# EAGLE library part HM-TRP (library HM-TRP)
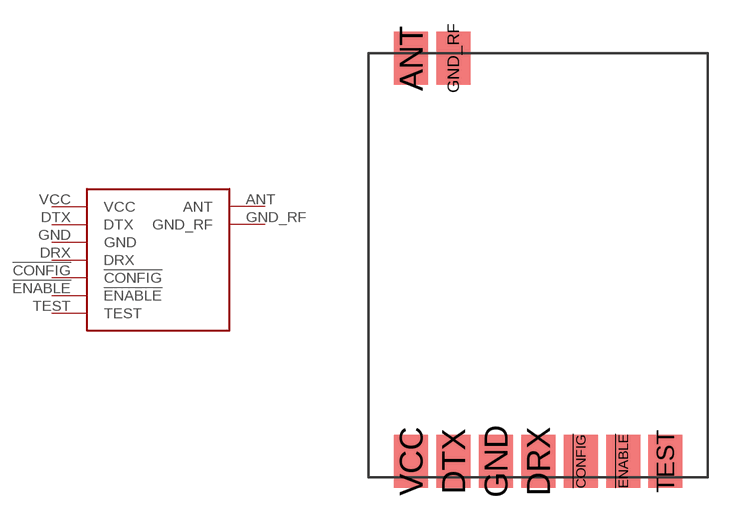
[diagram p0: symbol with the pads of HM-TRP; footprint HM-TRP]

Designator prefix -

## HM-TRP  [HM-TRP]
!CONFIG  !CONFIG
!ENABLE  !ENABLE
ANT  ANT
DRX  DRX
DTX  DTX
GND  GND
GND_RF  GND_RF
TEST  TEST
VCC  VCC

## Footprint HM-TRP (pad centres in mm)
smd 1.6 x 2.5: !CONFIG 10,0.75; !ENABLE 12,0.75; ANT 2,19.75; DRX 8,0.75; DTX 4,0.75; GND 6,0.75; GND_RF 4,19.75; TEST 14,0.75; VCC 2,0.75